# Altium integrated library pca64110.IntLib: 1 symbol
Pins are listed as number, name and electrical type; pins without a type are passive.

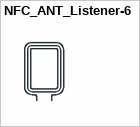
[diagram p0: symbol NFC_ANT_Listener-6]

## NFC_ANT_Listener-6
designator A?  (value not drawn)  (no BOM)
NFC Antenna Listener-6; Manufacturer: N.A.; Pad Count: 2; Part Number: NFC_ANT_Listener-6; Manufacturer Part Number: N.A.; Footprint Doc: NFC_ANT_Listener-6; LatestRevisionDate: 2015-05-29; Published: 2015-05-29; Value: NFC_ANT_Listener-6; Note: N.A.; Artikkelnr Noca: N.A.; PartId: 100700008; Component Class: Antennas; Author: rsk; ComponentLink1URL: N.A.; ComponentLink1Description: Datasheet; ComponentLink2URL: N.A.; ComponentLink2Description: Supplier link; HelpURL: N.A.; Supplier 1: N.A.; Supplier Part Number 1: N.A.; Supplier 2: N.A.; Supplier Part Number 2: N.A.; Part number IPS: N.A.; Part number Norautron: N.A.
footprint NFC_ANT_Listener-6
pins: 1, 2